# Altium footprint library MBRS130LT3G.PcbLib: 3 footprints
Each footprint in its own frame and in the unit in brackets; x right, y up, seen from the top. Pads: shape width x height; smd on the part's side, far side on the other; paste and mask are expansions set on the pad; w line width, h text height; cw(c..) or ccw(c..) is an arc to the next point about the centre after c.
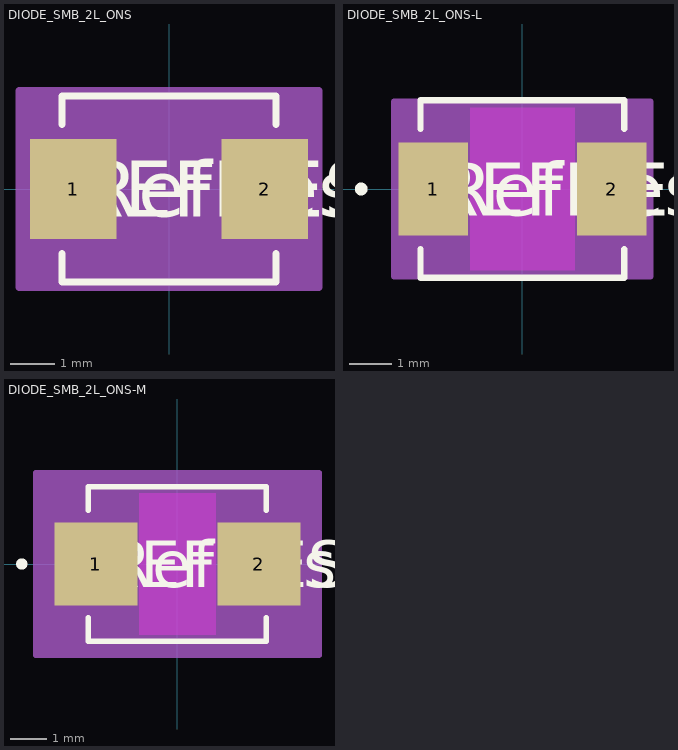
[diagram p0: the footprints below, top view; thin cyan lines are the x and y axes]

## DIODE_SMB_2L_ONS [mil]
pads (2):
  rect 77x89 smd paste+0 mask+0: 1(-85.5,0) 2(85.5,0)
Top Overlay:
  lines w6: -95.5,-57.6 -95.5,-83 95.5,-83 95.5,-57.6 ; -95.5,57.6 -95.5,83 95.5,83 95.5,57.6
  text "RefDes" at -75,-25 h50
  text "REFDES" at -87.5,-25 h50
Mechanical 13:
  lines w1: -90.5,-39 -51.5,-78 ; -90.5,39 -51.5,78 ; -110,-43.5 -90.5,-43.5 -90.5,43.5 -110,43.5 -110,-43.5 ; -90.5,-78 -90.5,78 90.5,78 90.5,-78 -90.5,-78 ; 90.5,-43.5 110,-43.5 110,43.5 90.5,43.5 90.5,-43.5
  text "RefDes2" at -87.5,-25 h50
Mechanical 15:
  region: 134,-88 -134,-88 -134,88 134,88
  lines w6: -134,-88 134,-88 134,88 -134,88 -134,-88

## DIODE_SMB_2L_ONS-L [mil]
pads (2):
  rect 65x87 smd paste+0 mask+0: 1(-83.5,0) 2(83.5,0)
Top Layer keep-out:
  region: -49,-76 -49,76 49,76 49,-76
Top Overlay:
  circle w6: c-151,0 r3
  lines w6: -95.5,-56.6 -95.5,-83 95.5,-83 95.5,-56.6 ; -95.5,56.6 -95.5,83 95.5,83 95.5,56.6
  text "REFDES" at -87.5,-25 h50
  text "RefDes" at -75,-25 h50
Keep-Out Layer:
  region: -49,-76 -49,76 49,76 49,-76
Mechanical 13:
  circle w0: c-83.5,0 r3
  lines w1: -90.5,-39 -51.5,-78 ; -90.5,39 -51.5,78 ; -110,-43.5 -110,43.5 -90.5,43.5 -90.5,-43.5 -110,-43.5 ; -90.5,-78 90.5,-78 90.5,78 -90.5,78 -90.5,-78 ; 90.5,-43.5 90.5,43.5 110,43.5 110,-43.5 90.5,-43.5
  text "RefDes2" at -87.5,-25 h50
Mechanical 15:
  region: 120,-82 -120,-82 -120,82 120,82
  lines w6: -120,-82 -120,82 120,82 120,-82 -120,-82

## DIODE_SMB_2L_ONS-M [mil]
pads (2):
  rect 89x89 smd paste+0 mask+0: 1(-87.5,0) 2(87.5,0)
Top Layer keep-out:
  region: -41,-76 -41,76 41,76 41,-76
Top Overlay:
  circle w6: c-167,0 r3
  lines w6: -95.5,-57.6 -95.5,-83 95.5,-83 95.5,-57.6 ; -95.5,57.6 -95.5,83 95.5,83 95.5,57.6
  text "REFDES" at -87.5,-25 h50
  text "RefDes" at -75,-25 h50
Keep-Out Layer:
  region: -41,-76 -41,76 41,76 41,-76
Mechanical 13:
  circle w0: c-87.5,0 r3
  lines w1: -90.5,-39 -51.5,-78 ; -90.5,39 -51.5,78 ; -110,-43.5 -110,43.5 -90.5,43.5 -90.5,-43.5 -110,-43.5 ; -90.5,-78 90.5,-78 90.5,78 -90.5,78 -90.5,-78 ; 90.5,-43.5 90.5,43.5 110,43.5 110,-43.5 90.5,-43.5
  text "RefDes2" at -87.5,-25 h50
Mechanical 15:
  region: 152,-98 -152,-98 -152,98 152,98
  lines w6: -152,-98 -152,98 152,98 152,-98 -152,-98